# Altium footprint library CONN_39501-1003_MOL.PcbLib: 1 footprints
Each footprint in its own frame and in the unit in brackets; x right, y up, seen from the top. Pads: shape width x height; smd on the part's side, far side on the other; paste and mask are expansions set on the pad; w line width, h text height; cw(c..) or ccw(c..) is an arc to the next point about the centre after c.
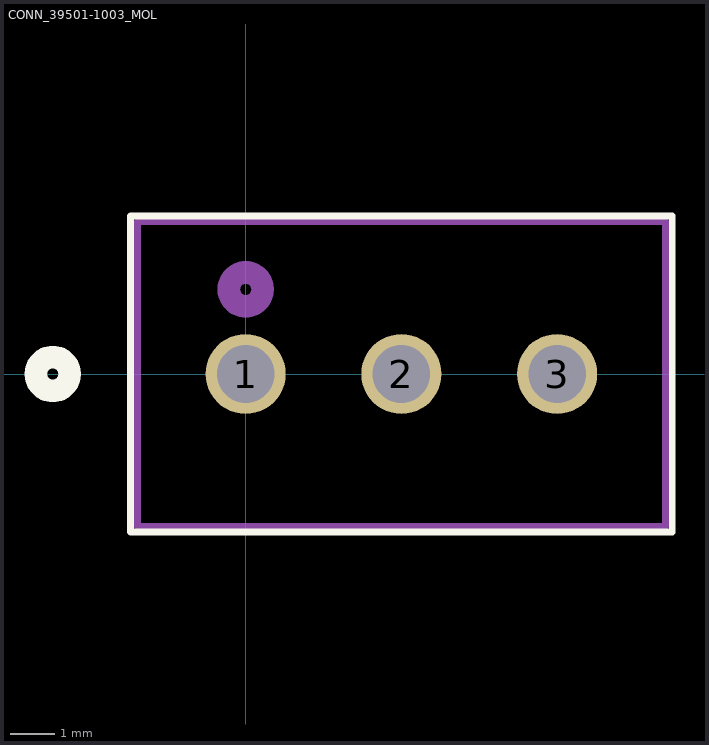
[diagram p0: the footprint, top view; thin cyan lines are the x and y axes]

## CONN_39501-1003_MOL [mil]
pads (3):
  round 71 hole 51: 1(0,0) 2(138,0) 3(276,0)
Top Overlay:
  lines w6: -102,-140 378,-140 378,140 -102,140 -102,-140
  lines w20: -186,0 ccw(c-171,0) -156,0 ccw(c-171,0) -186,0
Bottom Overlay:
  lines w20: -186,0 ccw(c-171,0) -156,0 ccw(c-171,0) -186,0
Assembly Top:
  lines w6: -96,-135 372,-135 372,135 -96,135 -96,-135
  lines w20: -15,75 ccw(c0,75) 15,75 ccw(c0,75) -15,75